# EAGLE library part MPQ4317GRE-5-AEC1-Z (library MPQ4317GRE-5-AEC1-Z)
Buck Switching Regulator IC Positive Adjustable 0.815V 1 Output 7A 20-PowerVFQFN Source: Datasheet <https://www.monolithicpower.com/en/documentview/productdocument/index/version/2/document_type/Datasheet/lang/en/sku/MPQ4317GRE-AEC1/document_id/9934/>
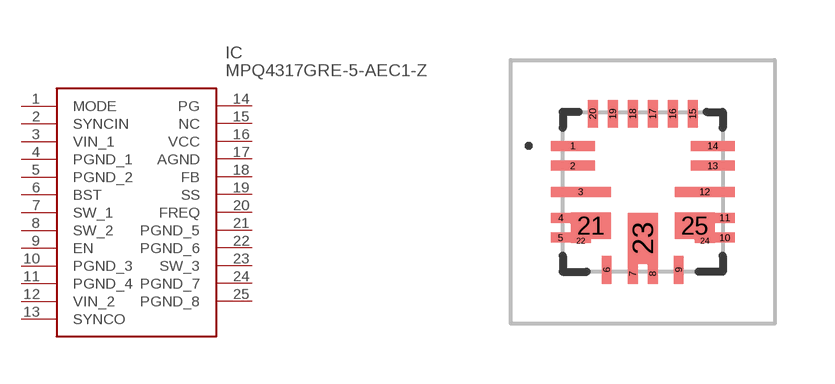
[diagram p0: symbol with the pads of MPQ4317GRE5AEC1Z; footprint MPQ4317GRE5AEC1Z]

Designator prefix IC

## MPQ4317GRE-5-AEC1-Z (Description: Buck Switching Regulator IC Positive Adjustable 0.815V 1 Output 7A 20-PowerVFQFN; Height: 1mm; Manufacturer_Name: Monolithic Power Systems (MPS); Manufacturer_Part_Number: MPQ4317GRE-5-AEC1-Z; Mouser_Part_Number: 946-MPQ4317GRE5AEC1Z; Mouser_Price-Stock: https://www.mouser.co.uk/ProductDetail/Monolithic-Power-Systems-MPS/MPQ4317GRE-5-AEC1-Z?qs=TCDPyi3sCW1Mo5vjLhOdKA%3D%3D)  [MPQ4317GRE5AEC1Z]
1  MODE
2  SYNCIN
3  VIN_1
4  PGND_1
5  PGND_2
6  BST
7  SW_1
8  SW_2
9  EN
10  PGND_3
11  PGND_4
12  VIN_2
13  SYNCO
14  PG
15  NC  nc
16  VCC
17  AGND
18  FB
19  SS
20  FREQ
21  PGND_5
22  PGND_6
23  SW_3
24  PGND_7
25  PGND_8

## Footprint MPQ4317GRE5AEC1Z (pad centres in mm)
QFN-20 (4mmx4mm) Wettable Flank
smd 1.1 x 0.25: 1 -1.75,1.15; 2 -1.75,0.65; 13 1.75,0.65; 14 1.75,1.15
smd 1.5 x 0.25: 3 -1.55,0; 12 1.55,0
smd 0.5 x 0.25: 4 -2.05,-0.65; 5 -2.05,-1.15; 10 2.05,-1.15; 11 2.05,-0.65
smd 0.25 x 0.7: 6 -0.9,-1.95; 9 0.9,-1.95; 15 1.25,1.95; 16 0.75,1.95; 17 0.25,1.95; 18 -0.25,1.95; 19 -0.75,1.95; 20 -1.25,1.95
smd 0.25 x 0.5: 7 -0.25,-2.05; 8 0.25,-2.05
smd 1 x 0.65: 21 -1.3,-0.85; 25 1.3,-0.85
smd 0.5 x 0.1: 22 -1.55,-1.225; 24 1.55,-1.225
smd 0.75 x 1.275: 23 0,-1.163